# Altium integrated library NSC Audio.IntLib: 691 symbols (part 5 of 18)
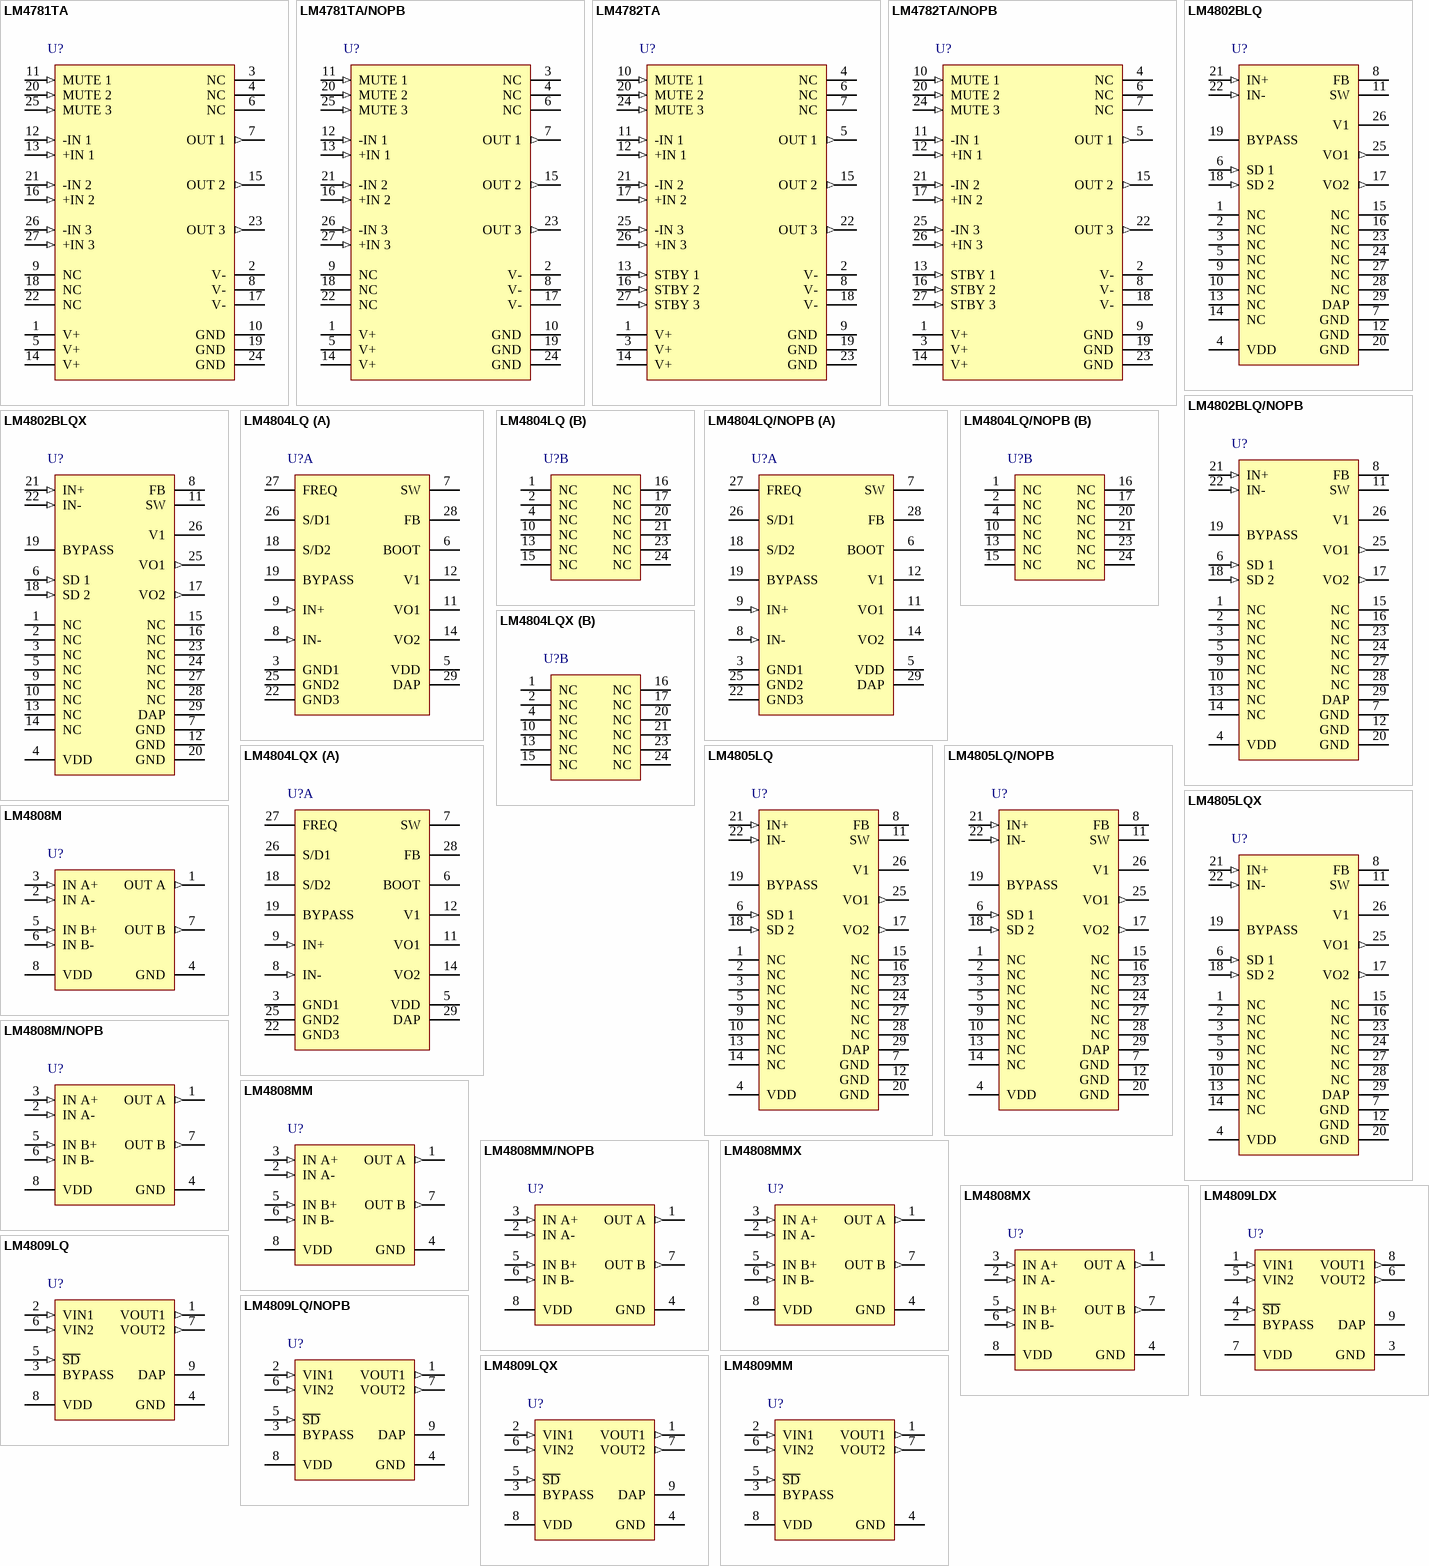
[diagram p31: symbols LM4781TA to LM4809MM]

## LM4808MMX
designator U?
Dual 105 mW Headphone Amplifier, 8-pin Mini SOIC; PartNumber: LM4808MMX; Manufacturer: National Semiconductor; PackageTopMarking: ZXTT*G08; PowerWise: N; CompType: Audio IC; Published: 1-Mar-2010; DatasheetVersion: Aug-2001; PackageVersion: revF, Apr-2008; PackageReference: MUA08A; Publisher: Altium Limited; PackageDescription: MINI SOIC, .118 x .118 x .034in, 8 Lead, .0256in Pitch; RoHS: N; PinCount: 8; Code_JEDEC: MO-187-AA; ComponentLink1Description: LM4808 Datasheet; ComponentLink1URL: http://www.national.com/ds/LM/LM4808.pdf; ComponentLink2Description: LM4808 Web Page; ComponentLink2URL: http://www.national.com/pf/LM/LM4808.html; ComponentLink3Description: MUA08A Package Page; ComponentLink3URL: http://www.national.com/packaging/folders/mua08a.html
footprint MUA08A_N (TSOP, 8-Leads, Body 3x3mm, Pitch 0.65mm, IPC Medium Density)
footprint MUA08A_L (TSOP, 8-Leads, Body 3x3mm, Pitch 0.65mm, IPC High Density)
footprint MUA08A_M (TSOP, 8-Leads, Body 3x3mm, Pitch 0.65mm, IPC Low Density)
pins: 1 OUT A (out), 2 IN A- (in), 3 IN A+ (in), 4 GND (power), 5 IN B+ (in), 6 IN B- (in), 7 OUT B (out), 8 VDD (power)

## LM4808MX
designator U?
Dual 105 mW Headphone Amplifier, 8-pin Narrow SOIC; PartNumber: LM4808MX; Manufacturer: National Semiconductor; PackageTopMarking: NSZXTT*LM48*08M; PowerWise: N; CompType: Audio IC; Published: 1-Mar-2010; DatasheetVersion: Aug-2001; PackageVersion: revM, May-2009; PackageReference: M08A; Publisher: Altium Limited; PackageDescription: SOIC Narrow, 4.9 x 3.9 x 1.45mm, 8 Lead, 1.27mm Pitch; RoHS: N; PinCount: 8; Code_JEDEC: MS-012-AA; Code_IPC: SOIC127P600-8; ComponentLink1Description: LM4808 Datasheet; ComponentLink1URL: http://www.national.com/ds/LM/LM4808.pdf; ComponentLink2Description: LM4808 Web Page; ComponentLink2URL: http://www.national.com/pf/LM/LM4808.html; ComponentLink3Description: M08A Package Page; ComponentLink3URL: http://www.national.com/packaging/folders/m08a.html
footprint M08A_N (SOIC, 8-Leads, Body 4.9x3.9mm, Pitch 1.27mm, IPC Medium Density)
footprint M08A_L (SOIC, 8-Leads, Body 4.9x3.9mm, Pitch 1.27mm, IPC High Density)
footprint M08A_M (SOIC, 8-Leads, Body 4.9x3.9mm, Pitch 1.27mm, IPC Low Density)
pins: 1 OUT A (out), 2 IN A- (in), 3 IN A+ (in), 4 GND (power), 5 IN B+ (in), 6 IN B- (in), 7 OUT B (out), 8 VDD (power)

## LM4809LDX
designator U?
Dual 105mW Headphone Amplifier with Active-Low Shutdown Mode, 8-pin LLP; PartNumber: LM4809LDX; Manufacturer: National Semiconductor; PackageTopMarking: XYTT*G09; PowerWise: N; CompType: Audio IC; Published: 1-Mar-2010; DatasheetVersion: Apr-2004; PackageVersion: revB, Jun-2003; PackageReference: LDA08B; Publisher: Altium Limited; PackageDescription: LLP, Plastic, Dual, 2.5 x 2.5 x 0.75mm Body, 8 Lead, 0.5mm Pitch; RoHS: N; PinCount: 8; Code_JEDEC: MO-229-WDDD-2; ComponentLink1Description: LM4809 Datasheet; ComponentLink1URL: http://www.national.com/ds/LM/LM4809.pdf; ComponentLink2Description: LM4809 Web Page; ComponentLink2URL: http://www.national.com/pf/LM/LM4809.html; ComponentLink3Description: LDA08B Package Page; ComponentLink3URL: http://www.national.com/packaging/folders/lda08b.html
footprint LDA08B (PSON, 8-Leads, Body 2.5x2.5mm, Pitch 0.5mm, NSC Recommended)
pins: 1 VIN1 (in), 2 BYPASS, 3 GND (power), 4 ~{SD} (in), 5 VIN2 (in), 6 VOUT2 (out), 7 VDD (power), 8 VOUT1 (out), 9 DAP (power)

## LM4809LQ
designator U?
Dual 105mW Headphone Amplifier with Active-Low Shutdown Mode, 9-pin LLP; PartNumber: LM4809LQ; Manufacturer: National Semiconductor; PackageTopMarking: XTT*GB3; PowerWise: N; CompType: Audio IC; Published: 4-Dec-2008; DatasheetVersion: Apr-2004; PackageVersion: revB, Nov-2002; PackageReference: LQB08A; Publisher: Altium Limited; PackageDescription: LLP, Plastic, Quad, 2 x 2 x 0.75mm Body, 8 Lead, 0.65mm Pitch; RoHS: N; PinCount: 8; ComponentLink1Description: LM4809 Datasheet; ComponentLink1URL: http://www.national.com/ds/LM/LM4809.pdf; ComponentLink2Description: LM4809 Web Page; ComponentLink2URL: http://www.national.com/pf/LM/LM4809.html; ComponentLink3Description: LQB08A Package Page; ComponentLink3URL: http://www.national.com/packaging/folders/lqb08a.html
footprint LQB08A (PQFN, 8-Leads, Body 2x2mm, Pitch 0.65mm, NSC Recommended)
pins: 1 VOUT1 (out), 2 VIN1 (in), 3 BYPASS, 4 GND (power), 5 ~{SD} (in), 6 VIN2 (in), 7 VOUT2 (out), 8 VDD (power), 9 DAP (power)

## LM4809LQ/NOPB
designator U?
Dual 105mW Headphone Amplifier with Active-Low Shutdown Mode, 8-pin LLP, Pb-Free; PartNumber: LM4809LQ/NOPB; Manufacturer: National Semiconductor; PackageTopMarking: XTT*GB3; PowerWise: N; CompType: Audio IC; Published: 1-Mar-2010; DatasheetVersion: Apr-2004; PackageVersion: revB, Nov-2002; PackageReference: LQB08A; Publisher: Altium Limited; PackageDescription: LLP, Plastic, Quad, 2 x 2 x 0.75mm Body, 8 Lead, 0.65mm Pitch; Supplier 1: Digi-Key; Supplier Part Number 1: LM4809LQTR-ND; Supplier 2: Digi-Key; Supplier Part Number 2: LM4809LQCT-ND; Supplier 3: Digi-Key; Supplier Part Number 3: LM4809LQDKR-ND; RoHS: Y; PinCount: 8; ComponentLink1Description: LM4809 Datasheet; ComponentLink1URL: http://www.national.com/ds/LM/LM4809.pdf; ComponentLink2Description: LM4809 Web Page; ComponentLink2URL: http://www.national.com/pf/LM/LM4809.html; ComponentLink3Description: LQB08A Package Page; ComponentLink3URL: http://www.national.com/packaging/folders/lqb08a.html
footprint LQB08A (PQFN, 8-Leads, Body 2x2mm, Pitch 0.65mm, NSC Recommended)
pins: 1 VOUT1 (out), 2 VIN1 (in), 3 BYPASS, 4 GND (power), 5 ~{SD} (in), 6 VIN2 (in), 7 VOUT2 (out), 8 VDD (power), 9 DAP (power)

## LM4809LQX
designator U?
Dual 105mW Headphone Amplifier with Active-Low Shutdown Mode, 8-pin LLP; PartNumber: LM4809LQX; Manufacturer: National Semiconductor; PackageTopMarking: XTT*GB3; PowerWise: N; CompType: Audio IC; Published: 1-Mar-2010; DatasheetVersion: Apr-2004; PackageVersion: revB, Nov-2002; PackageReference: LQB08A; Publisher: Altium Limited; PackageDescription: LLP, Plastic, Quad, 2 x 2 x 0.75mm Body, 8 Lead, 0.65mm Pitch; RoHS: N; PinCount: 8; ComponentLink1Description: LM4809 Datasheet; ComponentLink1URL: http://www.national.com/ds/LM/LM4809.pdf; ComponentLink2Description: LM4809 Web Page; ComponentLink2URL: http://www.national.com/pf/LM/LM4809.html; ComponentLink3Description: LQB08A Package Page; ComponentLink3URL: http://www.national.com/packaging/folders/lqb08a.html
footprint LQB08A (PQFN, 8-Leads, Body 2x2mm, Pitch 0.65mm, NSC Recommended)
pins: 1 VOUT1 (out), 2 VIN1 (in), 3 BYPASS, 4 GND (power), 5 ~{SD} (in), 6 VIN2 (in), 7 VOUT2 (out), 8 VDD (power), 9 DAP (power)

## LM4809MM
designator U?
Dual 105mW Headphone Amplifier with Active-Low Shutdown Mode, 8-pin Mini SOIC; PartNumber: LM4809MM; Manufacturer: National Semiconductor; PackageTopMarking: ZXTT*G09; PowerWise: N; CompType: Audio IC; Published: 4-Dec-2008; DatasheetVersion: Apr-2004; PackageVersion: revF, Apr-2008; PackageReference: MUA08A; Publisher: Altium Limited; PackageDescription: MINI SOIC, .118 x .118 x .034in, 8 Lead, .0256in Pitch; Supplier 1: Farnell; Supplier Part Number 1: 1798326; RoHS: N; PinCount: 8; Code_JEDEC: MO-187-AA; ComponentLink1Description: LM4809 Datasheet; ComponentLink1URL: http://www.national.com/ds/LM/LM4809.pdf; ComponentLink2Description: LM4809 Web Page; ComponentLink2URL: http://www.national.com/pf/LM/LM4809.html; ComponentLink3Description: MUA08A Package Page; ComponentLink3URL: http://www.national.com/packaging/folders/mua08a.html
footprint MUA08A_N (TSOP, 8-Leads, Body 3x3mm, Pitch 0.65mm, IPC Medium Density)
footprint MUA08A_L (TSOP, 8-Leads, Body 3x3mm, Pitch 0.65mm, IPC High Density)
footprint MUA08A_M (TSOP, 8-Leads, Body 3x3mm, Pitch 0.65mm, IPC Low Density)
pins: 1 VOUT1 (out), 2 VIN1 (in), 3 BYPASS, 4 GND (power), 5 ~{SD} (in), 6 VIN2 (in), 7 VOUT2 (out), 8 VDD (power)

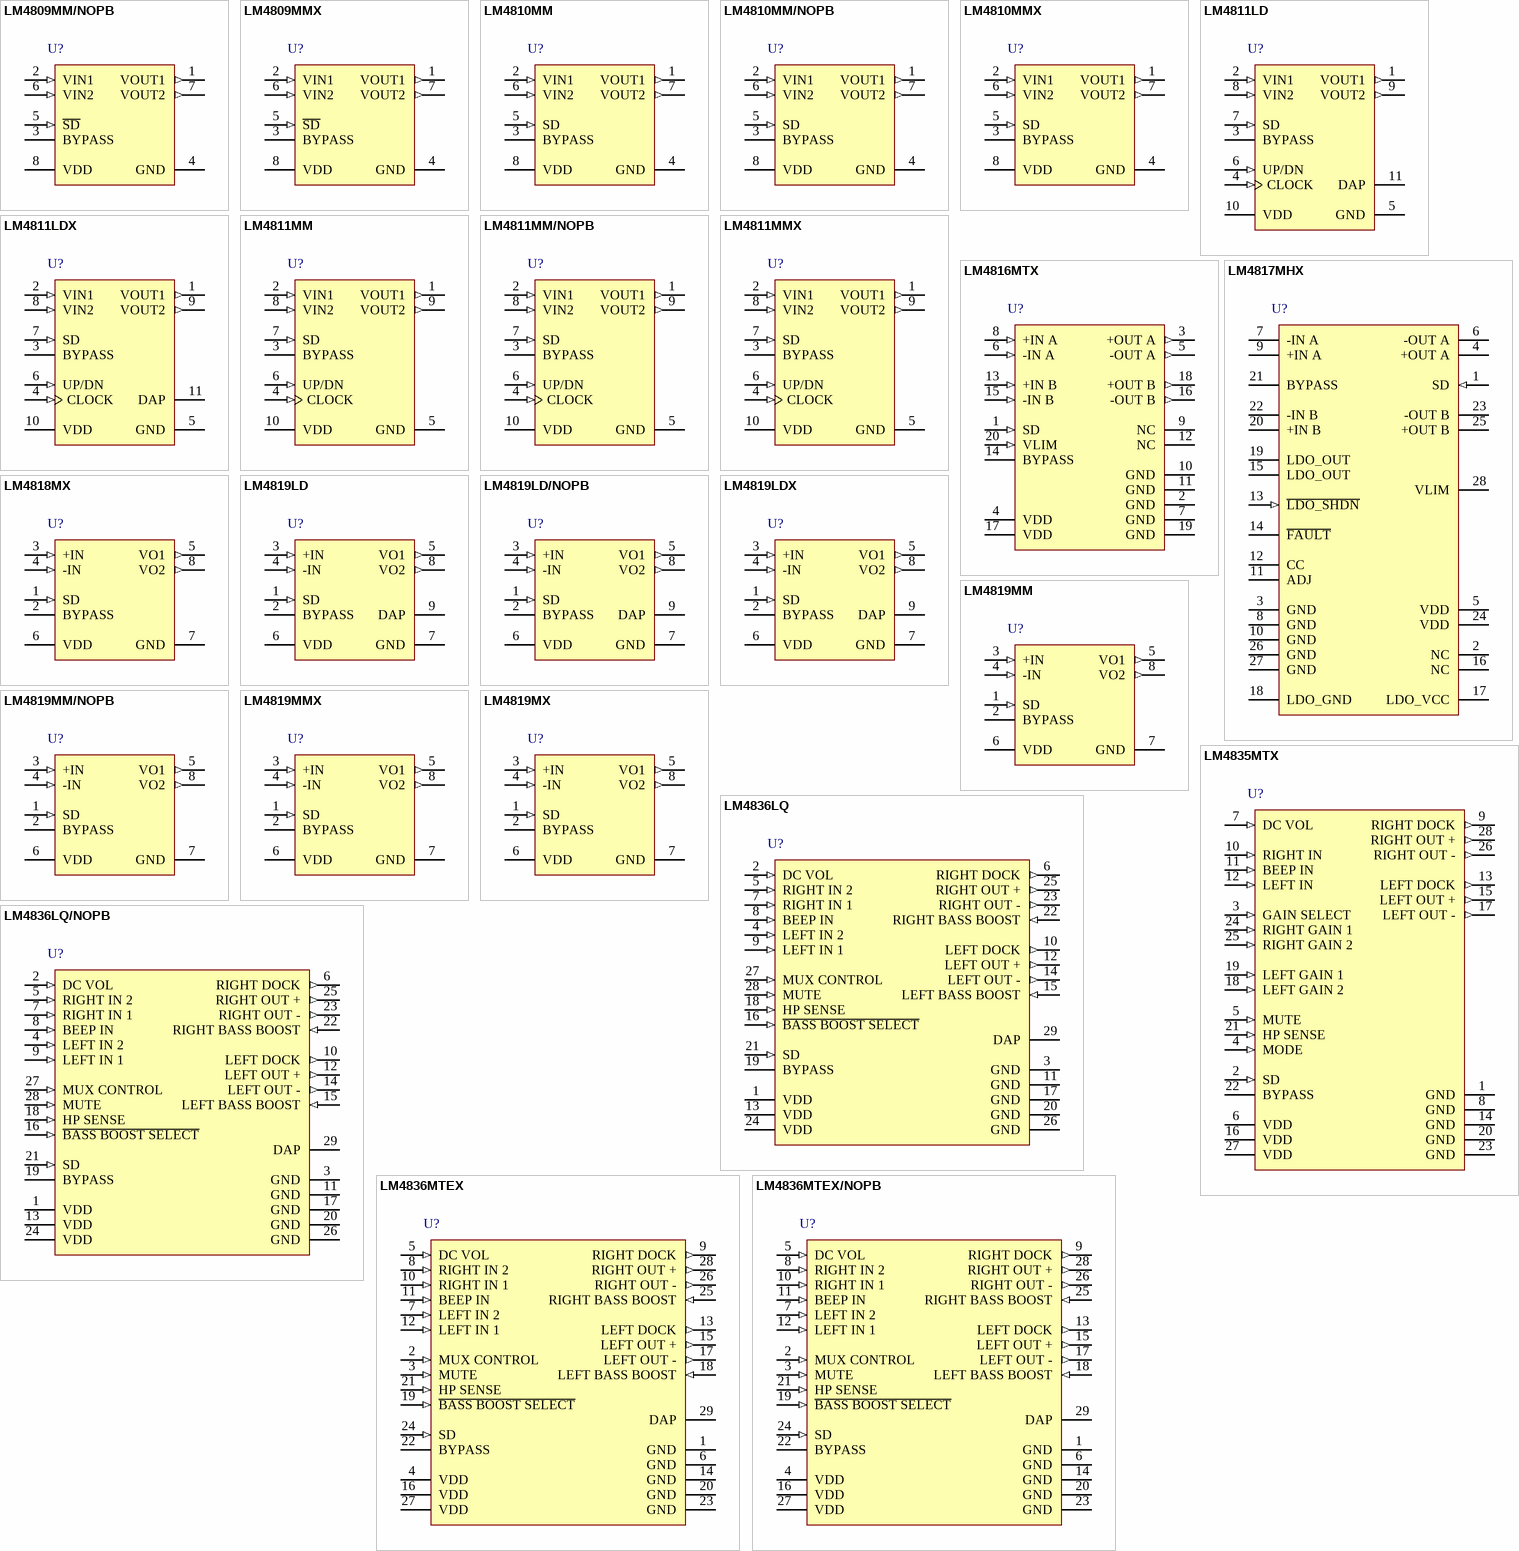
[diagram p6: symbols LM4809MM/NOPB to LM4836MTEX/NOPB]

## LM4809MM/NOPB
designator U?
Dual 105mW Headphone Amplifier with Active-Low Shutdown Mode, 8-pin Mini SOIC, Pb-Free; PartNumber: LM4809MM/NOPB; Manufacturer: National Semiconductor; PackageTopMarking: ZXTT*G09; PowerWise: N; CompType: Audio IC; Published: 1-Mar-2010; DatasheetVersion: Apr-2004; PackageVersion: revF, Apr-2008; PackageReference: MUA08A; Publisher: Altium Limited; PackageDescription: MINI SOIC, .118 x .118 x .034in, 8 Lead, .0256in Pitch; Supplier 1: Digi-Key; Supplier Part Number 1: LM4809MMTR-ND; Supplier 2: Digi-Key; Supplier Part Number 2: LM4809MMCT-ND; Supplier 3: Digi-Key; Supplier Part Number 3: LM4809MMDKR-ND; RoHS: Y; PinCount: 8; Code_JEDEC: MO-187-AA; ComponentLink1Description: LM4809 Datasheet; ComponentLink1URL: http://www.national.com/ds/LM/LM4809.pdf; ComponentLink2Description: LM4809 Web Page; ComponentLink2URL: http://www.national.com/pf/LM/LM4809.html; ComponentLink3Description: MUA08A Package Page; ComponentLink3URL: http://www.national.com/packaging/folders/mua08a.html
footprint MUA08A_N (TSOP, 8-Leads, Body 3x3mm, Pitch 0.65mm, IPC Medium Density)
footprint MUA08A_L (TSOP, 8-Leads, Body 3x3mm, Pitch 0.65mm, IPC High Density)
footprint MUA08A_M (TSOP, 8-Leads, Body 3x3mm, Pitch 0.65mm, IPC Low Density)
pins: 1 VOUT1 (out), 2 VIN1 (in), 3 BYPASS, 4 GND (power), 5 ~{SD} (in), 6 VIN2 (in), 7 VOUT2 (out), 8 VDD (power)

## LM4809MMX
designator U?
Dual 105mW Headphone Amplifier with Active-Low Shutdown Mode, 8-pin Mini SOIC; PartNumber: LM4809MMX; Manufacturer: National Semiconductor; PackageTopMarking: ZXTT*G09; PowerWise: N; CompType: Audio IC; Published: 1-Mar-2010; DatasheetVersion: Apr-2004; PackageVersion: revF, Apr-2008; PackageReference: MUA08A; Publisher: Altium Limited; PackageDescription: MINI SOIC, .118 x .118 x .034in, 8 Lead, .0256in Pitch; RoHS: N; PinCount: 8; Code_JEDEC: MO-187-AA; ComponentLink1Description: LM4809 Datasheet; ComponentLink1URL: http://www.national.com/ds/LM/LM4809.pdf; ComponentLink2Description: LM4809 Web Page; ComponentLink2URL: http://www.national.com/pf/LM/LM4809.html; ComponentLink3Description: MUA08A Package Page; ComponentLink3URL: http://www.national.com/packaging/folders/mua08a.html
footprint MUA08A_N (TSOP, 8-Leads, Body 3x3mm, Pitch 0.65mm, IPC Medium Density)
footprint MUA08A_L (TSOP, 8-Leads, Body 3x3mm, Pitch 0.65mm, IPC High Density)
footprint MUA08A_M (TSOP, 8-Leads, Body 3x3mm, Pitch 0.65mm, IPC Low Density)
pins: 1 VOUT1 (out), 2 VIN1 (in), 3 BYPASS, 4 GND (power), 5 ~{SD} (in), 6 VIN2 (in), 7 VOUT2 (out), 8 VDD (power)

## LM4810MM
designator U?
Dual 105mW Headphone Amplifier with Active-High Shutdown Mode, 8-pin Mini SOIC; PartNumber: LM4810MM; Manufacturer: National Semiconductor; PackageTopMarking: ZXTT*G10; PowerWise: N; CompType: Audio IC; Published: 4-Dec-2008; DatasheetVersion: Nov-2002; PackageVersion: revF, Apr-2008; PackageReference: MUA08A; Publisher: Altium Limited; PackageDescription: MINI SOIC, .118 x .118 x .034in, 8 Lead, .0256in Pitch; RoHS: N; PinCount: 8; Code_JEDEC: MO-187-AA; ComponentLink1Description: LM4810 Datasheet; ComponentLink1URL: http://www.national.com/ds/LM/LM4810.pdf; ComponentLink2Description: LM4810 Web Page; ComponentLink2URL: http://www.national.com/pf/LM/LM4810.html; ComponentLink3Description: MUA08A Package Page; ComponentLink3URL: http://www.national.com/packaging/folders/mua08a.html
footprint MUA08A_N (TSOP, 8-Leads, Body 3x3mm, Pitch 0.65mm, IPC Medium Density)
footprint MUA08A_L (TSOP, 8-Leads, Body 3x3mm, Pitch 0.65mm, IPC High Density)
footprint MUA08A_M (TSOP, 8-Leads, Body 3x3mm, Pitch 0.65mm, IPC Low Density)
pins: 1 VOUT1 (out), 2 VIN1 (in), 3 BYPASS, 4 GND (power), 5 SD (in), 6 VIN2 (in), 7 VOUT2 (out), 8 VDD (power)

## LM4810MM/NOPB
designator U?
Dual 105mW Headphone Amplifier with Active-High Shutdown Mode, 8-pin Mini SOIC, Pb-Free; PartNumber: LM4810MM/NOPB; Manufacturer: National Semiconductor; PackageTopMarking: ZXTT*G10; PowerWise: N; CompType: Audio IC; Published: 1-Mar-2010; DatasheetVersion: Nov-2002; PackageVersion: revF, Apr-2008; PackageReference: MUA08A; Publisher: Altium Limited; PackageDescription: MINI SOIC, .118 x .118 x .034in, 8 Lead, .0256in Pitch; Supplier 1: Digi-Key; Supplier Part Number 1: LM4810MMTR-ND; Supplier 2: Digi-Key; Supplier Part Number 2: LM4810MMCT-ND; Supplier 3: Digi-Key; Supplier Part Number 3: LM4810MMDKR-ND; RoHS: Y; PinCount: 8; Code_JEDEC: MO-187-AA; ComponentLink1Description: LM4810 Datasheet; ComponentLink1URL: http://www.national.com/ds/LM/LM4810.pdf; ComponentLink2Description: LM4810 Web Page; ComponentLink2URL: http://www.national.com/pf/LM/LM4810.html; ComponentLink3Description: MUA08A Package Page; ComponentLink3URL: http://www.national.com/packaging/folders/mua08a.html
footprint MUA08A_N (TSOP, 8-Leads, Body 3x3mm, Pitch 0.65mm, IPC Medium Density)
footprint MUA08A_L (TSOP, 8-Leads, Body 3x3mm, Pitch 0.65mm, IPC High Density)
footprint MUA08A_M (TSOP, 8-Leads, Body 3x3mm, Pitch 0.65mm, IPC Low Density)
pins: 1 VOUT1 (out), 2 VIN1 (in), 3 BYPASS, 4 GND (power), 5 SD (in), 6 VIN2 (in), 7 VOUT2 (out), 8 VDD (power)

## LM4810MMX
designator U?
Dual 105mW Headphone Amplifier with Active-High Shutdown Mode, 8-pin Mini SOIC; PartNumber: LM4810MMX; Manufacturer: National Semiconductor; PackageTopMarking: ZXTT*G10; PowerWise: N; CompType: Audio IC; Published: 1-Mar-2010; DatasheetVersion: Nov-2002; PackageVersion: revF, Apr-2008; PackageReference: MUA08A; Publisher: Altium Limited; PackageDescription: MINI SOIC, .118 x .118 x .034in, 8 Lead, .0256in Pitch; RoHS: N; PinCount: 8; Code_JEDEC: MO-187-AA; ComponentLink1Description: LM4810 Datasheet; ComponentLink1URL: http://www.national.com/ds/LM/LM4810.pdf; ComponentLink2Description: LM4810 Web Page; ComponentLink2URL: http://www.national.com/pf/LM/LM4810.html; ComponentLink3Description: MUA08A Package Page; ComponentLink3URL: http://www.national.com/packaging/folders/mua08a.html
footprint MUA08A_N (TSOP, 8-Leads, Body 3x3mm, Pitch 0.65mm, IPC Medium Density)
footprint MUA08A_L (TSOP, 8-Leads, Body 3x3mm, Pitch 0.65mm, IPC High Density)
footprint MUA08A_M (TSOP, 8-Leads, Body 3x3mm, Pitch 0.65mm, IPC Low Density)
pins: 1 VOUT1 (out), 2 VIN1 (in), 3 BYPASS, 4 GND (power), 5 SD (in), 6 VIN2 (in), 7 VOUT2 (out), 8 VDD (power)

## LM4811LD
designator U?
Dual 105mW Headphone Amplifier with Digital Volume Control and Shutdown Mode, 11-pin LLP; PartNumber: LM4811LD; Manufacturer: National Semiconductor; PackageTopMarking: ZXYTT*G11; PowerWise: N; CompType: Audio IC; Published: 4-Dec-2008; DatasheetVersion: Apr-2006; PackageVersion: revB, Jan-2003; PackageReference: LDA10A; Publisher: Altium Limited; PackageDescription: LLP, Plastic, Dual, 3 x 3 x 0.75mm Body, 10 Lead, 0.5mm Pitch; RoHS: N; PinCount: 10; ComponentLink1Description: LM4811 Datasheet; ComponentLink1URL: http://www.national.com/ds/LM/LM4811.pdf; ComponentLink2Description: LM4811 Web Page; ComponentLink2URL: http://www.national.com/pf/LM/LM4811.html; ComponentLink3Description: LDA10A Package Page; ComponentLink3URL: http://www.national.com/packaging/folders/lda10a.html
footprint LDA10A (PSON, 10-Leads, Body 3x3mm, Pitch 0.5mm, NSC Recommended)
pins: 1 VOUT1 (out), 2 VIN1 (in), 3 BYPASS, 4 CLOCK (in), 5 GND (power), 6 UP/DN (in), 7 SD (in), 8 VIN2 (in), 9 VOUT2 (out), 10 VDD (power), 11 DAP (power)

## LM4811LDX
designator U?
Dual 105mW Headphone Amplifier with Digital Volume Control and Shutdown Mode, 10-pin LLP; PartNumber: LM4811LDX; Manufacturer: National Semiconductor; PackageTopMarking: ZXYTT*G11; PowerWise: N; CompType: Audio IC; Published: 1-Mar-2010; DatasheetVersion: Apr-2006; PackageVersion: revB, Jan-2003; PackageReference: LDA10A; Publisher: Altium Limited; PackageDescription: LLP, Plastic, Dual, 3 x 3 x 0.75mm Body, 10 Lead, 0.5mm Pitch; RoHS: N; PinCount: 10; ComponentLink1Description: LM4811 Datasheet; ComponentLink1URL: http://www.national.com/ds/LM/LM4811.pdf; ComponentLink2Description: LM4811 Web Page; ComponentLink2URL: http://www.national.com/pf/LM/LM4811.html; ComponentLink3Description: LDA10A Package Page; ComponentLink3URL: http://www.national.com/packaging/folders/lda10a.html
footprint LDA10A (PSON, 10-Leads, Body 3x3mm, Pitch 0.5mm, NSC Recommended)
pins: 1 VOUT1 (out), 2 VIN1 (in), 3 BYPASS, 4 CLOCK (in), 5 GND (power), 6 UP/DN (in), 7 SD (in), 8 VIN2 (in), 9 VOUT2 (out), 10 VDD (power), 11 DAP (power)

## LM4811MM
designator U?
Dual 105mW Headphone Amplifier with Digital Volume Control and Shutdown Mode, 10-pin MSOP; PartNumber: LM4811MM; Manufacturer: National Semiconductor; PackageTopMarking: ZXTT*G11; PowerWise: N; CompType: Audio IC; Published: 4-Dec-2008; DatasheetVersion: Apr-2006; PackageVersion: revB, Jul-2003; PackageReference: MUB10A; Publisher: Altium Limited; PackageDescription: Mini-SO, Molded, .118 x .118 x .034in Body, 10 Lead, .0197in Pitch; Supplier 1: Farnell; Supplier Part Number 1: 9779221; RoHS: N; PinCount: 10; Code_JEDEC: MO-187-BA; ComponentLink1Description: LM4811 Datasheet; ComponentLink1URL: http://www.national.com/ds/LM/LM4811.pdf; ComponentLink2Description: LM4811 Web Page; ComponentLink2URL: http://www.national.com/pf/LM/LM4811.html; ComponentLink3Description: MUB10A Package Page; ComponentLink3URL: http://www.national.com/packaging/folders/mub10a.html
footprint MUB10A_N (TSSOP, 10-Leads, Body 3x3mm, Pitch 0.5mm, IPC Medium Density)
footprint MUB10A_L (TSSOP, 10-Leads, Body 3x3mm, Pitch 0.5mm, IPC High Density)
footprint MUB10A_M (TSSOP, 10-Leads, Body 3x3mm, Pitch 0.5mm, IPC Low Density)
pins: 1 VOUT1 (out), 2 VIN1 (in), 3 BYPASS, 4 CLOCK (in), 5 GND (power), 6 UP/DN (in), 7 SD (in), 8 VIN2 (in), 9 VOUT2 (out), 10 VDD (power)

## LM4811MM/NOPB
designator U?
Dual 105mW Headphone Amplifier with Digital Volume Control and Shutdown Mode, 10-pin Mini SOIC, Pb-Free; PartNumber: LM4811MM/NOPB; Manufacturer: National Semiconductor; PackageTopMarking: ZXTT*G11; PowerWise: N; CompType: Audio IC; Published: 1-Mar-2010; DatasheetVersion: Apr-2006; PackageVersion: revB, Jul-2003; PackageReference: MUB10A; Publisher: Altium Limited; PackageDescription: Mini-SO, Molded, .118 x .118 x .034in Body, 10 Lead, .0197in Pitch; Supplier 1: Digi-Key; Supplier Part Number 1: LM4811MMTR-ND; Supplier 2: Digi-Key; Supplier Part Number 2: LM4811MMCT-ND; Supplier 3: Digi-Key; Supplier Part Number 3: LM4811MMDKR-ND; Supplier 4: Farnell; Supplier Part Number 4: 1277981; RoHS: Y; PinCount: 10; Code_JEDEC: MO-187-BA; ComponentLink1Description: LM4811 Datasheet; ComponentLink1URL: http://www.national.com/ds/LM/LM4811.pdf; ComponentLink2Description: LM4811 Web Page; ComponentLink2URL: http://www.national.com/pf/LM/LM4811.html; ComponentLink3Description: MUB10A Package Page; ComponentLink3URL: http://www.national.com/packaging/folders/mub10a.html
footprint MUB10A_N (TSSOP, 10-Leads, Body 3x3mm, Pitch 0.5mm, IPC Medium Density)
footprint MUB10A_L (TSSOP, 10-Leads, Body 3x3mm, Pitch 0.5mm, IPC High Density)
footprint MUB10A_M (TSSOP, 10-Leads, Body 3x3mm, Pitch 0.5mm, IPC Low Density)
pins: 1 VOUT1 (out), 2 VIN1 (in), 3 BYPASS, 4 CLOCK (in), 5 GND (power), 6 UP/DN (in), 7 SD (in), 8 VIN2 (in), 9 VOUT2 (out), 10 VDD (power)

## LM4811MMX
designator U?
Dual 105mW Headphone Amplifier with Digital Volume Control and Shutdown Mode, 10-pin Mini SOIC; PartNumber: LM4811MMX; Manufacturer: National Semiconductor; PackageTopMarking: ZXTT*G11; PowerWise: N; CompType: Audio IC; Published: 1-Mar-2010; DatasheetVersion: Apr-2006; PackageVersion: revB, Jul-2003; PackageReference: MUB10A; Publisher: Altium Limited; PackageDescription: Mini-SO, Molded, .118 x .118 x .034in Body, 10 Lead, .0197in Pitch; RoHS: N; PinCount: 10; Code_JEDEC: MO-187-BA; ComponentLink1Description: LM4811 Datasheet; ComponentLink1URL: http://www.national.com/ds/LM/LM4811.pdf; ComponentLink2Description: LM4811 Web Page; ComponentLink2URL: http://www.national.com/pf/LM/LM4811.html; ComponentLink3Description: MUB10A Package Page; ComponentLink3URL: http://www.national.com/packaging/folders/mub10a.html
footprint MUB10A_N (TSSOP, 10-Leads, Body 3x3mm, Pitch 0.5mm, IPC Medium Density)
footprint MUB10A_L (TSSOP, 10-Leads, Body 3x3mm, Pitch 0.5mm, IPC High Density)
footprint MUB10A_M (TSSOP, 10-Leads, Body 3x3mm, Pitch 0.5mm, IPC Low Density)
pins: 1 VOUT1 (out), 2 VIN1 (in), 3 BYPASS, 4 CLOCK (in), 5 GND (power), 6 UP/DN (in), 7 SD (in), 8 VIN2 (in), 9 VOUT2 (out), 10 VDD (power)

## LM4816MTX
designator U?
1W Stereo Audio Amplifier + Adjustable Output Limiter, 20-pin TSSOP; PartNumber: LM4816MTX; Manufacturer: National Semiconductor; PackageTopMarking: NSUZXYTT*LM4816*MT; PowerWise: N; CompType: Audio IC; Published: 1-Mar-2010; DatasheetVersion: Oct-2003; PackageVersion: revE, Mar-2003; PackageReference: MTC20; Publisher: Altium Limited; PackageDescription: Molded TSSOP, Jedec, 6.5 x 4.4 x 0.9mm Body, 20 Lead, 0.65mm Pitch; RoHS: N; PinCount: 20; Code_JEDEC: MO-153-AC; ComponentLink1Description: LM4816 Datasheet; ComponentLink1URL: http://www.national.com/ds/LM/LM4816.pdf; ComponentLink2Description: LM4816 Web Page; ComponentLink2URL: http://www.national.com/pf/LM/LM4816.html; ComponentLink3Description: MTC20 Package Page; ComponentLink3URL: http://www.national.com/packaging/folders/mtc20.html
footprint MTC20_N (TSOP, 20-Leads, Body 6.5x4.4mm, Pitch 0.65mm, IPC Medium Density)
footprint MTC20_L (TSOP, 20-Leads, Body 6.5x4.4mm, Pitch 0.65mm, IPC High Density)
footprint MTC20_M (TSOP, 20-Leads, Body 6.5x4.4mm, Pitch 0.65mm, IPC Low Density)
pins: 1 SD (in), 2 GND (power), 3 +OUT A (out), 4 VDD (power), 5 -OUT A (out), 6 -IN A (in), 7 GND (power), 8 +IN A (in), 9 NC, 10 GND (power), 11 GND (power), 12 NC, 13 +IN B (in), 14 BYPASS, 15 -IN B (in), 16 -OUT B (out), 17 VDD (power), 18 +OUT B (out), 19 GND (power), 20 VLIM (in)

## LM4817MHX
designator U?
1W Stereo Audio Amplifier Plus Adjustable Output Limiter Plus Adjustable LDO, 28-pin TSSOP-EP; PartNumber: LM4817MHX; Manufacturer: National Semiconductor; PackageTopMarking: NSUZXYTT*LM4817MH; PowerWise: N; CompType: Audio IC; Published: 1-Mar-2010; DatasheetVersion: Feb-2006; PackageVersion: revD, Oct-2003; PackageReference: MXA28A; Publisher: Altium Limited; PackageDescription: Molded TSSOP, Jedec, 9.7 x 4.4 x 0.9mm Body, 28 Lead, 0.65mm Pitch, Exposed Pad; RoHS: N; PinCount: 28; Code_JEDEC: MO-153-AET; ComponentLink1Description: LM4817 Datasheet; ComponentLink1URL: http://www.national.com/ds/LM/LM4817.pdf; ComponentLink2Description: LM4817 Web Page; ComponentLink2URL: http://www.national.com/pf/LM/LM4817.html; ComponentLink3Description: MXA28A Package Page; ComponentLink3URL: http://www.national.com/packaging/folders/mxa28a.html
footprint MXA28A_N (TSOP, 28-Leads, Body 9.7x4.4mm, Pitch 0.65mm, Exposed Pad, IPC Medium Density)
footprint MXA28A_L (TSOP, 28-Leads, Body 9.7x4.4mm, Pitch 0.65mm, Exposed Pad, IPC High Density)
footprint MXA28A_M (TSOP, 28-Leads, Body 9.7x4.4mm, Pitch 0.65mm, Exposed Pad, IPC Low Density)
pins: 1 SD (in), 2 NC, 3 GND (power), 4 +OUT A, 5 VDD (power), 6 -OUT A, 7 -IN A, 8 GND (power), 9 +IN A, 10 GND (power), 11 ADJ, 12 CC, 13 ~{LDO_SHDN} (in), 14 ~{FAULT}, 15 LDO_OUT (power), 16 NC, 17 LDO_VCC (power), 18 LDO_GND (power), 19 LDO_OUT (power), 20 +IN B, 21 BYPASS, 22 -IN B, 23 -OUT B, 24 VDD (power), 25 +OUT B, 26 GND (power), 27 GND (power), 28 VLIM (power)

## LM4818MX
designator U?
350mW Audio Power Amplifier with Shutdown Mode, 8-pin Narrow SOIC; PartNumber: LM4818MX; Manufacturer: National Semiconductor; PackageTopMarking: NSZXTT*LM48*18M; PowerWise: N; CompType: Audio IC; Published: 1-Mar-2010; DatasheetVersion: Apr-2002; PackageVersion: revM, May-2009; PackageReference: M08A; Publisher: Altium Limited; PackageDescription: SOIC Narrow, 4.9 x 3.9 x 1.45mm, 8 Lead, 1.27mm Pitch; RoHS: N; PinCount: 8; Code_JEDEC: MS-012-AA; Code_IPC: SOIC127P600-8; ComponentLink1Description: LM4818 Datasheet; ComponentLink1URL: http://www.national.com/ds/LM/LM4818.pdf; ComponentLink2Description: LM4818 Web Page; ComponentLink2URL: http://www.national.com/pf/LM/LM4818.html; ComponentLink3Description: M08A Package Page; ComponentLink3URL: http://www.national.com/packaging/folders/m08a.html
footprint M08A_N (SOIC, 8-Leads, Body 4.9x3.9mm, Pitch 1.27mm, IPC Medium Density)
footprint M08A_L (SOIC, 8-Leads, Body 4.9x3.9mm, Pitch 1.27mm, IPC High Density)
footprint M08A_M (SOIC, 8-Leads, Body 4.9x3.9mm, Pitch 1.27mm, IPC Low Density)
pins: 1 SD (in), 2 BYPASS, 3 +IN (in), 4 -IN (in), 5 VO1 (out), 6 VDD (power), 7 GND (power), 8 VO2 (out)

## LM4819LD
designator U?
350mW Audio Power Amplifier with Shutdown Mode, 9-pin LLP; PartNumber: LM4819LD; Manufacturer: National Semiconductor; PackageTopMarking: XYTT*G19; PowerWise: N; CompType: Audio IC; Published: 4-Dec-2008; DatasheetVersion: Apr-2002; PackageVersion: revB, Jun-2003; PackageReference: LDA08B; Publisher: Altium Limited; PackageDescription: LLP, Plastic, Dual, 2.5 x 2.5 x 0.75mm Body, 8 Lead, 0.5mm Pitch; RoHS: N; PinCount: 8; Code_JEDEC: MO-229-WDDD-2; ComponentLink1Description: LM4819 Datasheet; ComponentLink1URL: http://www.national.com/ds/LM/LM4819.pdf; ComponentLink2Description: LM4819 Web Page; ComponentLink2URL: http://www.national.com/pf/LM/LM4819.html; ComponentLink3Description: LDA08B Package Page; ComponentLink3URL: http://www.national.com/packaging/folders/lda08b.html
footprint LDA08B (PSON, 8-Leads, Body 2.5x2.5mm, Pitch 0.5mm, NSC Recommended)
pins: 1 SD (in), 2 BYPASS, 3 +IN (in), 4 -IN (in), 5 VO1 (out), 6 VDD (power), 7 GND (power), 8 VO2 (out), 9 DAP (power)

## LM4819LD/NOPB
designator U?
350mW Audio Power Amplifier with Shutdown Mode, 8-pin LLP, Pb-Free; PartNumber: LM4819LD/NOPB; Manufacturer: National Semiconductor; PackageTopMarking: XYTT*G19; PowerWise: N; CompType: Audio IC; Published: 1-Mar-2010; DatasheetVersion: Apr-2002; PackageVersion: revB, Jun-2003; PackageReference: LDA08B; Publisher: Altium Limited; PackageDescription: LLP, Plastic, Dual, 2.5 x 2.5 x 0.75mm Body, 8 Lead, 0.5mm Pitch; Supplier 1: Digi-Key; Supplier Part Number 1: LM4819LD-ND; RoHS: Y; PinCount: 8; Code_JEDEC: MO-229-WDDD-2; ComponentLink1Description: LM4819 Datasheet; ComponentLink1URL: http://www.national.com/ds/LM/LM4819.pdf; ComponentLink2Description: LM4819 Web Page; ComponentLink2URL: http://www.national.com/pf/LM/LM4819.html; ComponentLink3Description: LDA08B Package Page; ComponentLink3URL: http://www.national.com/packaging/folders/lda08b.html
footprint LDA08B (PSON, 8-Leads, Body 2.5x2.5mm, Pitch 0.5mm, NSC Recommended)
pins: 1 SD (in), 2 BYPASS, 3 +IN (in), 4 -IN (in), 5 VO1 (out), 6 VDD (power), 7 GND (power), 8 VO2 (out), 9 DAP (power)

## LM4819LDX
designator U?
350mW Audio Power Amplifier with Shutdown Mode, 8-pin LLP; PartNumber: LM4819LDX; Manufacturer: National Semiconductor; PackageTopMarking: XYTT*G19; PowerWise: N; CompType: Audio IC; Published: 1-Mar-2010; DatasheetVersion: Apr-2002; PackageVersion: revB, Jun-2003; PackageReference: LDA08B; Publisher: Altium Limited; PackageDescription: LLP, Plastic, Dual, 2.5 x 2.5 x 0.75mm Body, 8 Lead, 0.5mm Pitch; RoHS: N; PinCount: 8; Code_JEDEC: MO-229-WDDD-2; ComponentLink1Description: LM4819 Datasheet; ComponentLink1URL: http://www.national.com/ds/LM/LM4819.pdf; ComponentLink2Description: LM4819 Web Page; ComponentLink2URL: http://www.national.com/pf/LM/LM4819.html; ComponentLink3Description: LDA08B Package Page; ComponentLink3URL: http://www.national.com/packaging/folders/lda08b.html
footprint LDA08B (PSON, 8-Leads, Body 2.5x2.5mm, Pitch 0.5mm, NSC Recommended)
pins: 1 SD (in), 2 BYPASS, 3 +IN (in), 4 -IN (in), 5 VO1 (out), 6 VDD (power), 7 GND (power), 8 VO2 (out), 9 DAP (power)

## LM4819MM
designator U?
350mW Audio Power Amplifier with Shutdown Mode, 8-pin Mini SOIC; PartNumber: LM4819MM; Manufacturer: National Semiconductor; PackageTopMarking: ZXTT*G19; PowerWise: N; CompType: Audio IC; Published: 4-Dec-2008; DatasheetVersion: Apr-2002; PackageVersion: revF, Apr-2008; PackageReference: MUA08A; Publisher: Altium Limited; PackageDescription: MINI SOIC, .118 x .118 x .034in, 8 Lead, .0256in Pitch; RoHS: N; PinCount: 8; Code_JEDEC: MO-187-AA; ComponentLink1Description: LM4819 Datasheet; ComponentLink1URL: http://www.national.com/ds/LM/LM4819.pdf; ComponentLink2Description: LM4819 Web Page; ComponentLink2URL: http://www.national.com/pf/LM/LM4819.html; ComponentLink3Description: MUA08A Package Page; ComponentLink3URL: http://www.national.com/packaging/folders/mua08a.html
footprint MUA08A_N (TSOP, 8-Leads, Body 3x3mm, Pitch 0.65mm, IPC Medium Density)
footprint MUA08A_L (TSOP, 8-Leads, Body 3x3mm, Pitch 0.65mm, IPC High Density)
footprint MUA08A_M (TSOP, 8-Leads, Body 3x3mm, Pitch 0.65mm, IPC Low Density)
pins: 1 SD (in), 2 BYPASS, 3 +IN (in), 4 -IN (in), 5 VO1 (out), 6 VDD (power), 7 GND (power), 8 VO2 (out)

## LM4819MM/NOPB
designator U?
350mW Audio Power Amplifier with Shutdown Mode, 8-pin Mini SOIC, Pb-Free; PartNumber: LM4819MM/NOPB; Manufacturer: National Semiconductor; PackageTopMarking: ZXTT*G19; PowerWise: N; CompType: Audio IC; Published: 1-Mar-2010; DatasheetVersion: Apr-2002; PackageVersion: revF, Apr-2008; PackageReference: MUA08A; Publisher: Altium Limited; PackageDescription: MINI SOIC, .118 x .118 x .034in, 8 Lead, .0256in Pitch; Supplier 1: Digi-Key; Supplier Part Number 1: LM4819MM-ND; RoHS: Y; PinCount: 8; Code_JEDEC: MO-187-AA; ComponentLink1Description: LM4819 Datasheet; ComponentLink1URL: http://www.national.com/ds/LM/LM4819.pdf; ComponentLink2Description: LM4819 Web Page; ComponentLink2URL: http://www.national.com/pf/LM/LM4819.html; ComponentLink3Description: MUA08A Package Page; ComponentLink3URL: http://www.national.com/packaging/folders/mua08a.html
footprint MUA08A_N (TSOP, 8-Leads, Body 3x3mm, Pitch 0.65mm, IPC Medium Density)
footprint MUA08A_L (TSOP, 8-Leads, Body 3x3mm, Pitch 0.65mm, IPC High Density)
footprint MUA08A_M (TSOP, 8-Leads, Body 3x3mm, Pitch 0.65mm, IPC Low Density)
pins: 1 SD (in), 2 BYPASS, 3 +IN (in), 4 -IN (in), 5 VO1 (out), 6 VDD (power), 7 GND (power), 8 VO2 (out)

## LM4819MMX
designator U?
350mW Audio Power Amplifier with Shutdown Mode, 8-pin Mini SOIC; PartNumber: LM4819MMX; Manufacturer: National Semiconductor; PackageTopMarking: ZXTT*G19; PowerWise: N; CompType: Audio IC; Published: 1-Mar-2010; DatasheetVersion: Apr-2002; PackageVersion: revF, Apr-2008; PackageReference: MUA08A; Publisher: Altium Limited; PackageDescription: MINI SOIC, .118 x .118 x .034in, 8 Lead, .0256in Pitch; RoHS: N; PinCount: 8; Code_JEDEC: MO-187-AA; ComponentLink1Description: LM4819 Datasheet; ComponentLink1URL: http://www.national.com/ds/LM/LM4819.pdf; ComponentLink2Description: LM4819 Web Page; ComponentLink2URL: http://www.national.com/pf/LM/LM4819.html; ComponentLink3Description: MUA08A Package Page; ComponentLink3URL: http://www.national.com/packaging/folders/mua08a.html
footprint MUA08A_N (TSOP, 8-Leads, Body 3x3mm, Pitch 0.65mm, IPC Medium Density)
footprint MUA08A_L (TSOP, 8-Leads, Body 3x3mm, Pitch 0.65mm, IPC High Density)
footprint MUA08A_M (TSOP, 8-Leads, Body 3x3mm, Pitch 0.65mm, IPC Low Density)
pins: 1 SD (in), 2 BYPASS, 3 +IN (in), 4 -IN (in), 5 VO1 (out), 6 VDD (power), 7 GND (power), 8 VO2 (out)

## LM4819MX
designator U?
350mW Audio Power Amplifier with Shutdown Mode, 8-pin Narrow SOIC; PartNumber: LM4819MX; Manufacturer: National Semiconductor; PackageTopMarking: NSZXTT*LM48*19M; PowerWise: N; CompType: Audio IC; Published: 1-Mar-2010; DatasheetVersion: Apr-2002; PackageVersion: revM, May-2009; PackageReference: M08A; Publisher: Altium Limited; PackageDescription: SOIC Narrow, 4.9 x 3.9 x 1.45mm, 8 Lead, 1.27mm Pitch; Supplier 1: Digi-Key; Supplier Part Number 1: LM4819MXTR-ND; Supplier 2: Digi-Key; Supplier Part Number 2: LM4819MXCT-ND; RoHS: N; PinCount: 8; Code_JEDEC: MS-012-AA; Code_IPC: SOIC127P600-8; ComponentLink1Description: LM4819 Datasheet; ComponentLink1URL: http://www.national.com/ds/LM/LM4819.pdf; ComponentLink2Description: LM4819 Web Page; ComponentLink2URL: http://www.national.com/pf/LM/LM4819.html; ComponentLink3Description: M08A Package Page; ComponentLink3URL: http://www.national.com/packaging/folders/m08a.html
footprint M08A_N (SOIC, 8-Leads, Body 4.9x3.9mm, Pitch 1.27mm, IPC Medium Density)
footprint M08A_L (SOIC, 8-Leads, Body 4.9x3.9mm, Pitch 1.27mm, IPC High Density)
footprint M08A_M (SOIC, 8-Leads, Body 4.9x3.9mm, Pitch 1.27mm, IPC Low Density)
pins: 1 SD (in), 2 BYPASS, 3 +IN (in), 4 -IN (in), 5 VO1 (out), 6 VDD (power), 7 GND (power), 8 VO2 (out)

## LM4835MTX
designator U?
Stereo 2W Audio Power Amplifiers with DC Volume Control and Selectable Gain, 28-pin TSSOP; PartNumber: LM4835MTX; Manufacturer: National Semiconductor; PackageTopMarking: NSUZXYTT*LM4835MT; PowerWise: N; CompType: Audio IC; Published: 1-Mar-2010; DatasheetVersion: Feb-2003; PackageVersion: revD, Jan-2005; PackageReference: MTC28; Publisher: Altium Limited; PackageDescription: Molded TSSOP, Jedec, 9.7 x 4.4 x 0.9mm Body, 28 Lead, 0.65mm Pitch; RoHS: N; PinCount: 28; Code_JEDEC: MO-153-AE; ComponentLink1Description: LM4835 Datasheet; ComponentLink1URL: http://www.national.com/ds/LM/LM4835.pdf; ComponentLink2Description: LM4835 Web Page; ComponentLink2URL: http://www.national.com/pf/LM/LM4835.html; ComponentLink3Description: MTC28 Package Page; ComponentLink3URL: http://www.national.com/packaging/folders/mtc28.html
footprint MTC28_N (TSOP, 28-Leads, Body 9.7x4.4mm, Pitch 0.65mm, IPC Medium Density)
footprint MTC28_L (TSOP, 28-Leads, Body 9.7x4.4mm, Pitch 0.65mm, IPC High Density)
footprint MTC28_M (TSOP, 28-Leads, Body 9.7x4.4mm, Pitch 0.65mm, IPC Low Density)
pins: 1 GND (power), 2 SD (in), 3 GAIN SELECT (in), 4 MODE (in), 5 MUTE (in), 6 VDD (power), 7 DC VOL (in), 8 GND (power), 9 RIGHT DOCK (out), 10 RIGHT IN (in), 11 BEEP IN (in), 12 LEFT IN (in), 13 LEFT DOCK (out), 14 GND (power), 15 LEFT OUT + (out), 16 VDD (power), 17 LEFT OUT - (out), 18 LEFT GAIN 2 (in), 19 LEFT GAIN 1 (in), 20 GND (power), 21 HP SENSE (in), 22 BYPASS, 23 GND (power), 24 RIGHT GAIN 1 (in), 25 RIGHT GAIN 2 (in), 26 RIGHT OUT - (out), 27 VDD (power), 28 RIGHT OUT + (out)

## LM4836LQ
designator U?
Stereo 2W Audio Power Amplifiers with DC Volume Control, Bass Boost, and Input Mux, 29-pin LLP; PartNumber: LM4836LQ; Manufacturer: National Semiconductor; PowerWise: N; CompType: Audio IC; Published: 4-Dec-2008; DatasheetVersion: Jun-2002; PackageVersion: revB, Jul-2001; PackageReference: LQA28A; Publisher: Altium Limited; PackageDescription: LLP, Plastic, Quad, 5 x 5 x 0.75mm Body, 28 Lead, 0.5mm Pitch; RoHS: N; PinCount: 28; Code_JEDEC: MO-220-WHHD-1; ComponentLink1Description: LM4836 Datasheet; ComponentLink1URL: http://www.national.com/ds/LM/LM4836.pdf; ComponentLink2Description: LM4836 Web Page; ComponentLink2URL: http://www.national.com/pf/LM/LM4836.html; ComponentLink3Description: LQA28A Package Page; ComponentLink3URL: http://www.national.com/packaging/folders/lqa28a.html
footprint LQA28A (PQFN, 28-Leads, Body 5x5mm, Pitch 0.5mm, NSC Recommended)
pins: 1 VDD (power), 2 DC VOL (in), 3 GND (power), 4 LEFT IN 2 (in), 5 RIGHT IN 2 (in), 6 RIGHT DOCK (out), 7 RIGHT IN 1 (in), 8 BEEP IN (in), 9 LEFT IN 1 (in), 10 LEFT DOCK (out), 11 GND (power), 12 LEFT OUT + (out), 13 VDD (power), 14 LEFT OUT - (out), 15 LEFT BASS BOOST (in), 16 ~{BASS BOOST SELECT} (in), 17 GND (power), 18 HP SENSE (in), 19 BYPASS, 20 GND (power), 21 SD (in), 22 RIGHT BASS BOOST (in), 23 RIGHT OUT - (out), 24 VDD (power), 25 RIGHT OUT + (out), 26 GND (power), 27 MUX CONTROL (in), 28 MUTE (in), 29 DAP (power)

## LM4836LQ/NOPB
designator U?
Stereo 2W Audio Power Amplifiers with DC Volume Control, Bass Boost, and Input Mux, 28-pin LLP, Pb-Free; PartNumber: LM4836LQ/NOPB; Manufacturer: National Semiconductor; PowerWise: N; CompType: Audio IC; Published: 1-Mar-2010; DatasheetVersion: Jun-2002; PackageVersion: revB, Jul-2001; PackageReference: LQA28A; Publisher: Altium Limited; PackageDescription: LLP, Plastic, Quad, 5 x 5 x 0.75mm Body, 28 Lead, 0.5mm Pitch; Supplier 1: Digi-Key; Supplier Part Number 1: LM4836LQTR-ND; Supplier 2: Digi-Key; Supplier Part Number 2: LM4836LQCT-ND; Supplier 3: Digi-Key; Supplier Part Number 3: LM4836LQDKR-ND; RoHS: Y; PinCount: 28; Code_JEDEC: MO-220-WHHD-1; ComponentLink1Description: LM4836 Datasheet; ComponentLink1URL: http://www.national.com/ds/LM/LM4836.pdf; ComponentLink2Description: LM4836 Web Page; ComponentLink2URL: http://www.national.com/pf/LM/LM4836.html; ComponentLink3Description: LQA28A Package Page; ComponentLink3URL: http://www.national.com/packaging/folders/lqa28a.html
footprint LQA28A (PQFN, 28-Leads, Body 5x5mm, Pitch 0.5mm, NSC Recommended)
pins: 1 VDD (power), 2 DC VOL (in), 3 GND (power), 4 LEFT IN 2 (in), 5 RIGHT IN 2 (in), 6 RIGHT DOCK (out), 7 RIGHT IN 1 (in), 8 BEEP IN (in), 9 LEFT IN 1 (in), 10 LEFT DOCK (out), 11 GND (power), 12 LEFT OUT + (out), 13 VDD (power), 14 LEFT OUT - (out), 15 LEFT BASS BOOST (in), 16 ~{BASS BOOST SELECT} (in), 17 GND (power), 18 HP SENSE (in), 19 BYPASS, 20 GND (power), 21 SD (in), 22 RIGHT BASS BOOST (in), 23 RIGHT OUT - (out), 24 VDD (power), 25 RIGHT OUT + (out), 26 GND (power), 27 MUX CONTROL (in), 28 MUTE (in), 29 DAP (power)

## LM4836MTEX
designator U?
Stereo 2W Audio Power Amplifiers with DC Volume Control, Bass Boost, and Input Mux, 28-pin TSSOP-EP; PartNumber: LM4836MTEX; Manufacturer: National Semiconductor; PackageTopMarking: NSUZXYTT*LM4836MTE; PowerWise: N; CompType: Audio IC; Published: 1-Mar-2010; DatasheetVersion: Jun-2002; PackageVersion: revD, Oct-2003; PackageReference: MXA28A; Publisher: Altium Limited; PackageDescription: Molded TSSOP, Jedec, 9.7 x 4.4 x 0.9mm Body, 28 Lead, 0.65mm Pitch, Exposed Pad; RoHS: N; PinCount: 28; Code_JEDEC: MO-153-AET; ComponentLink1Description: LM4836 Datasheet; ComponentLink1URL: http://www.national.com/ds/LM/LM4836.pdf; ComponentLink2Description: LM4836 Web Page; ComponentLink2URL: http://www.national.com/pf/LM/LM4836.html; ComponentLink3Description: MXA28A Package Page; ComponentLink3URL: http://www.national.com/packaging/folders/mxa28a.html
footprint MXA28A_N (TSOP, 28-Leads, Body 9.7x4.4mm, Pitch 0.65mm, Exposed Pad, IPC Medium Density)
footprint MXA28A_L (TSOP, 28-Leads, Body 9.7x4.4mm, Pitch 0.65mm, Exposed Pad, IPC High Density)
footprint MXA28A_M (TSOP, 28-Leads, Body 9.7x4.4mm, Pitch 0.65mm, Exposed Pad, IPC Low Density)
pins: 1 GND (power), 2 MUX CONTROL (in), 3 MUTE (in), 4 VDD (power), 5 DC VOL (in), 6 GND (power), 7 LEFT IN 2 (in), 8 RIGHT IN 2 (in), 9 RIGHT DOCK (out), 10 RIGHT IN 1 (in), 11 BEEP IN (in), 12 LEFT IN 1 (in), 13 LEFT DOCK (out), 14 GND (power), 15 LEFT OUT + (out), 16 VDD (power), 17 LEFT OUT - (out), 18 LEFT BASS BOOST (in), 19 ~{BASS BOOST SELECT} (in), 20 GND (power), 21 HP SENSE (in), 22 BYPASS, 23 GND (power), 24 SD (in), 25 RIGHT BASS BOOST (in), 26 RIGHT OUT - (out), 27 VDD (power), 28 RIGHT OUT + (out), 29 DAP (power)

## LM4836MTEX/NOPB
designator U?
Stereo 2W Audio Power Amplifiers with DC Volume Control, Bass Boost, and Input Mux, 28-pin TSSOP-EP, Pb-Free; PartNumber: LM4836MTEX/NOPB; Manufacturer: National Semiconductor; PackageTopMarking: NSUZXYTT*LM4836MTE; PowerWise: N; CompType: Audio IC; Published: 1-Mar-2010; DatasheetVersion: Jun-2002; PackageVersion: revD, Oct-2003; PackageReference: MXA28A; Publisher: Altium Limited; PackageDescription: Molded TSSOP, Jedec, 9.7 x 4.4 x 0.9mm Body, 28 Lead, 0.65mm Pitch, Exposed Pad; Supplier 1: Digi-Key; Supplier Part Number 1: LM4836MTEX-ND; RoHS: Y; PinCount: 28; Code_JEDEC: MO-153-AET; ComponentLink1Description: LM4836 Datasheet; ComponentLink1URL: http://www.national.com/ds/LM/LM4836.pdf; ComponentLink2Description: LM4836 Web Page; ComponentLink2URL: http://www.national.com/pf/LM/LM4836.html; ComponentLink3Description: MXA28A Package Page; ComponentLink3URL: http://www.national.com/packaging/folders/mxa28a.html
footprint MXA28A_N (TSOP, 28-Leads, Body 9.7x4.4mm, Pitch 0.65mm, Exposed Pad, IPC Medium Density)
footprint MXA28A_L (TSOP, 28-Leads, Body 9.7x4.4mm, Pitch 0.65mm, Exposed Pad, IPC High Density)
footprint MXA28A_M (TSOP, 28-Leads, Body 9.7x4.4mm, Pitch 0.65mm, Exposed Pad, IPC Low Density)
pins: 1 GND (power), 2 MUX CONTROL (in), 3 MUTE (in), 4 VDD (power), 5 DC VOL (in), 6 GND (power), 7 LEFT IN 2 (in), 8 RIGHT IN 2 (in), 9 RIGHT DOCK (out), 10 RIGHT IN 1 (in), 11 BEEP IN (in), 12 LEFT IN 1 (in), 13 LEFT DOCK (out), 14 GND (power), 15 LEFT OUT + (out), 16 VDD (power), 17 LEFT OUT - (out), 18 LEFT BASS BOOST (in), 19 ~{BASS BOOST SELECT} (in), 20 GND (power), 21 HP SENSE (in), 22 BYPASS, 23 GND (power), 24 SD (in), 25 RIGHT BASS BOOST (in), 26 RIGHT OUT - (out), 27 VDD (power), 28 RIGHT OUT + (out), 29 DAP (power)

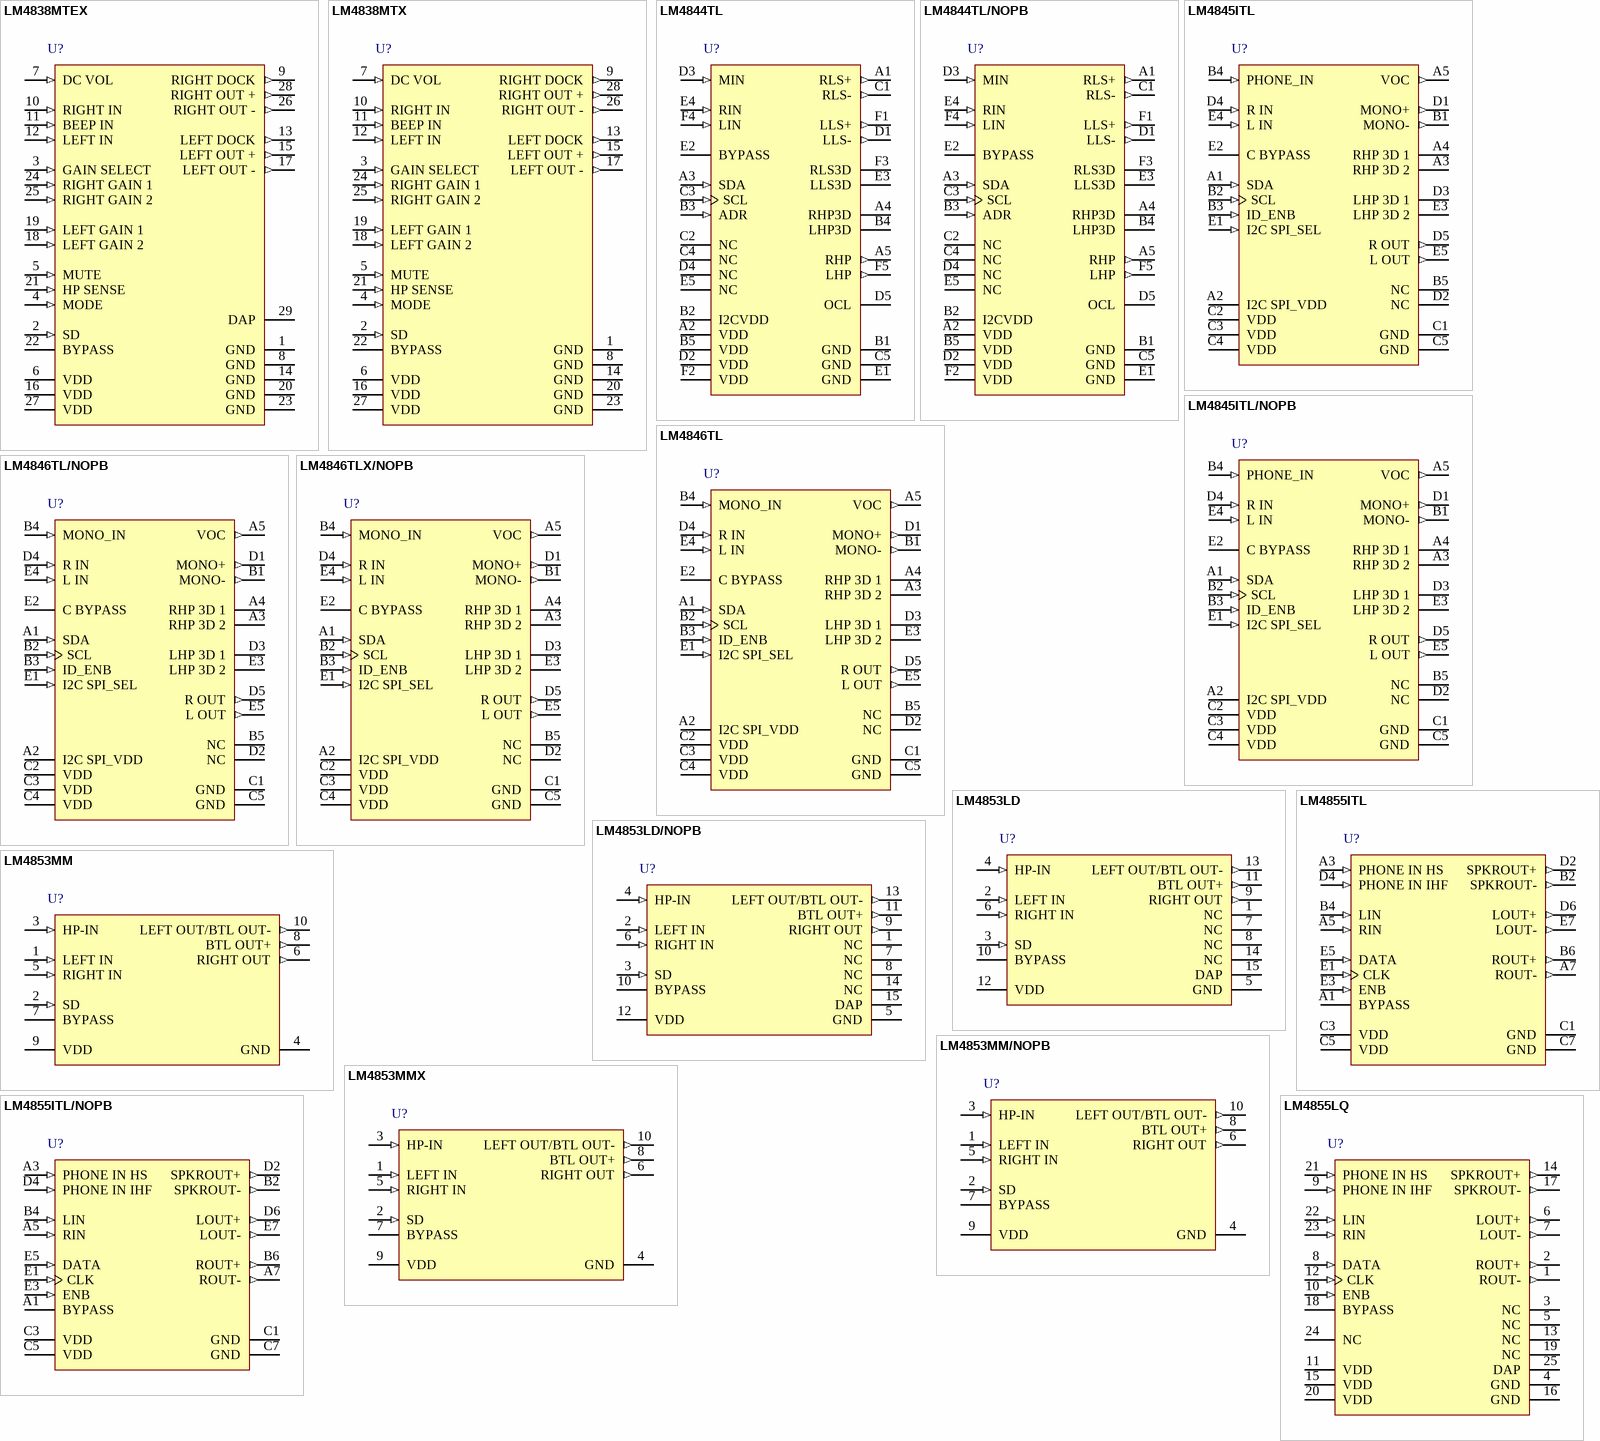
[diagram p7: symbols LM4838MTEX to LM4855LQ]

## LM4838MTEX
designator U?
Stereo 2W Audio Power Amplifiers with DC Volume Control and Selectable Gain, 28-pin TSSOP-EP; PartNumber: LM4838MTEX; Manufacturer: National Semiconductor; PackageTopMarking: NSUZXYTT*LM4838MTE; PowerWise: N; CompType: Audio IC; Published: 1-Mar-2010; DatasheetVersion: Nov-2004; PackageVersion: revD, Oct-2003; PackageReference: MXA28A; Publisher: Altium Limited; PackageDescription: Molded TSSOP, Jedec, 9.7 x 4.4 x 0.9mm Body, 28 Lead, 0.65mm Pitch, Exposed Pad; RoHS: N; PinCount: 28; Code_JEDEC: MO-153-AET; ComponentLink1Description: LM4838 Datasheet; ComponentLink1URL: http://www.national.com/ds/LM/LM4838.pdf; ComponentLink2Description: LM4838 Web Page; ComponentLink2URL: http://www.national.com/pf/LM/LM4838.html; ComponentLink3Description: MXA28A Package Page; ComponentLink3URL: http://www.national.com/packaging/folders/mxa28a.html
footprint MXA28A_N (TSOP, 28-Leads, Body 9.7x4.4mm, Pitch 0.65mm, Exposed Pad, IPC Medium Density)
footprint MXA28A_L (TSOP, 28-Leads, Body 9.7x4.4mm, Pitch 0.65mm, Exposed Pad, IPC High Density)
footprint MXA28A_M (TSOP, 28-Leads, Body 9.7x4.4mm, Pitch 0.65mm, Exposed Pad, IPC Low Density)
pins: 1 GND (power), 2 SD (in), 3 GAIN SELECT (in), 4 MODE (in), 5 MUTE (in), 6 VDD (power), 7 DC VOL (in), 8 GND (power), 9 RIGHT DOCK (out), 10 RIGHT IN (in), 11 BEEP IN (in), 12 LEFT IN (in), 13 LEFT DOCK (out), 14 GND (power), 15 LEFT OUT + (out), 16 VDD (power), 17 LEFT OUT - (out), 18 LEFT GAIN 2 (in), 19 LEFT GAIN 1 (in), 20 GND (power), 21 HP SENSE (in), 22 BYPASS, 23 GND (power), 24 RIGHT GAIN 1 (in), 25 RIGHT GAIN 2 (in), 26 RIGHT OUT - (out), 27 VDD (power), 28 RIGHT OUT + (out), 29 DAP (power)

## LM4838MTX
designator U?
Stereo 2W Audio Power Amplifiers with DC Volume Control and Selectable Gain, 28-pin TSSOP; PartNumber: LM4838MTX; Manufacturer: National Semiconductor; PackageTopMarking: NSUZXYTT*LM4838MT; PowerWise: N; CompType: Audio IC; Published: 1-Mar-2010; DatasheetVersion: Nov-2004; PackageVersion: revD, Jan-2005; PackageReference: MTC28; Publisher: Altium Limited; PackageDescription: Molded TSSOP, Jedec, 9.7 x 4.4 x 0.9mm Body, 28 Lead, 0.65mm Pitch; RoHS: N; PinCount: 28; Code_JEDEC: MO-153-AE; ComponentLink1Description: LM4838 Datasheet; ComponentLink1URL: http://www.national.com/ds/LM/LM4838.pdf; ComponentLink2Description: LM4838 Web Page; ComponentLink2URL: http://www.national.com/pf/LM/LM4838.html; ComponentLink3Description: MTC28 Package Page; ComponentLink3URL: http://www.national.com/packaging/folders/mtc28.html
footprint MTC28_N (TSOP, 28-Leads, Body 9.7x4.4mm, Pitch 0.65mm, IPC Medium Density)
footprint MTC28_L (TSOP, 28-Leads, Body 9.7x4.4mm, Pitch 0.65mm, IPC High Density)
footprint MTC28_M (TSOP, 28-Leads, Body 9.7x4.4mm, Pitch 0.65mm, IPC Low Density)
pins: 1 GND (power), 2 SD (in), 3 GAIN SELECT (in), 4 MODE (in), 5 MUTE (in), 6 VDD (power), 7 DC VOL (in), 8 GND (power), 9 RIGHT DOCK (out), 10 RIGHT IN (in), 11 BEEP IN (in), 12 LEFT IN (in), 13 LEFT DOCK (out), 14 GND (power), 15 LEFT OUT + (out), 16 VDD (power), 17 LEFT OUT - (out), 18 LEFT GAIN 2 (in), 19 LEFT GAIN 1 (in), 20 GND (power), 21 HP SENSE (in), 22 BYPASS, 23 GND (power), 24 RIGHT GAIN 1 (in), 25 RIGHT GAIN 2 (in), 26 RIGHT OUT - (out), 27 VDD (power), 28 RIGHT OUT + (out)

## LM4844TL
designator U?
Stereo 1.2W Audio Sub-System with 3D Enhancement, 30-pin Micro SMD; PartNumber: LM4844TL; Manufacturer: National Semiconductor; PackageTopMarking: XYTT*I GF3; PowerWise: N; CompType: Audio IC; Published: 4-Dec-2008; DatasheetVersion: Aug-2007; PackageVersion: revC, Dec-2003; PackageReference: TLA30CZA; Publisher: Altium Limited; PackageDescription: Thin Micro SMD, 30 Bump (Large), 0.5mm Pitch; RoHS: Y; PinCount: 30; Code_JEDEC: MO-211-DJ; ComponentLink1Description: LM4844 Datasheet; ComponentLink1URL: http://www.national.com/ds/LM/LM4844.pdf; ComponentLink2Description: LM4844 Web Page; ComponentLink2URL: http://www.national.com/pf/LM/LM4844.html; ComponentLink3Description: TLA30CZA Package Page; ComponentLink3URL: http://www.national.com/packaging/folders/tla30cza.html
footprint TLA30CZA (Micro SMD, 30-Leads, Body 2.95x2.55mm, Pitch 0.5mm, NSC Recommended)
pins: A1 RLS+ (out), A2 VDD (power), A3 SDA (in), A4 RHP3D, A5 RHP (out), B1 GND (power), B2 I2CVDD (power), B3 ADR (in), B4 LHP3D, B5 VDD (power), C1 RLS- (out), C2 NC, C3 SCL (in), C4 NC, C5 GND (power), D1 LLS- (out), D2 VDD (power), D3 MIN (in), D4 NC, D5 OCL (power), E1 GND (power), E2 BYPASS, E3 LLS3D, E4 RIN (in), E5 NC, F1 LLS+ (out), F2 VDD (power), F3 RLS3D, F4 LIN (in), F5 LHP (out)

## LM4844TL/NOPB
designator U?
Stereo 1.2W Audio Sub-System with 3D Enhancement, 30-pin Micro SMD, Pb-Free; PartNumber: LM4844TL/NOPB; Manufacturer: National Semiconductor; PackageTopMarking: XYTT*I GF3; PowerWise: N; CompType: Audio IC; Published: 1-Mar-2010; DatasheetVersion: Aug-2007; PackageVersion: revC, Dec-2003; PackageReference: TLA30CZA; Publisher: Altium Limited; PackageDescription: Thin Micro SMD, 30 Bump (Large), 0.5mm Pitch; Supplier 1: Digi-Key; Supplier Part Number 1: LM4844TLTR-ND; Supplier 2: Digi-Key; Supplier Part Number 2: LM4844TLCT-ND; Supplier 3: Digi-Key; Supplier Part Number 3: LM4844TLDKR-ND; RoHS: Y; PinCount: 30; Code_JEDEC: MO-211-DJ; ComponentLink1Description: LM4844 Datasheet; ComponentLink1URL: http://www.national.com/ds/LM/LM4844.pdf; ComponentLink2Description: LM4844 Web Page; ComponentLink2URL: http://www.national.com/pf/LM/LM4844.html; ComponentLink3Description: TLA30CZA Package Page; ComponentLink3URL: http://www.national.com/packaging/folders/tla30cza.html
footprint TLA30CZA (Micro SMD, 30-Leads, Body 2.95x2.55mm, Pitch 0.5mm, NSC Recommended)
pins: A1 RLS+ (out), A2 VDD (power), A3 SDA (in), A4 RHP3D, A5 RHP (out), B1 GND (power), B2 I2CVDD (power), B3 ADR (in), B4 LHP3D, B5 VDD (power), C1 RLS- (out), C2 NC, C3 SCL (in), C4 NC, C5 GND (power), D1 LLS- (out), D2 VDD (power), D3 MIN (in), D4 NC, D5 OCL (power), E1 GND (power), E2 BYPASS, E3 LLS3D, E4 RIN (in), E5 NC, F1 LLS+ (out), F2 VDD (power), F3 RLS3D, F4 LIN (in), F5 LHP (out)

## LM4845ITL
designator U?
Output Capacitor-less Audio Subsystem with Programmable National 3D, 25-pin Micro SMD; PartNumber: LM4845ITL; Manufacturer: National Semiconductor; PackageTopMarking: XYTT*I GE5; PowerWise: N; CompType: Audio IC; Published: 4-Dec-2008; DatasheetVersion: Jul-2006; PackageVersion: revD, Dec-2003; PackageReference: TLA25CBA; Publisher: Altium Limited; PackageDescription: Thin Micro SMD, 25 Bump (Large), 0.5mm Pitch; Supplier 1: Farnell; Supplier Part Number 1: 1008019; RoHS: Y; PinCount: 25; Code_JEDEC: MO-211-DH; ComponentLink1Description: LM4845 Datasheet; ComponentLink1URL: http://www.national.com/ds/LM/LM4845.pdf; ComponentLink2Description: LM4845 Web Page; ComponentLink2URL: http://www.national.com/pf/LM/LM4845.html; ComponentLink3Description: TLA25CBA Package Page; ComponentLink3URL: http://www.national.com/packaging/folders/tla25cba.html
footprint TLA25CBA (Micro SMD, 25-Leads, Body 2.52x2.55mm, Pitch 0.5mm, NSC Recommended)
pins: A1 SDA (in), A2 I2C SPI_VDD (power), A3 RHP 3D 2, A4 RHP 3D 1, A5 VOC (out), B1 MONO- (out), B2 SCL (in), B3 ID_ENB (in), B4 PHONE_IN (in), B5 NC, C1 GND (power), C2 VDD (power), C3 VDD (power), C4 VDD (power), C5 GND (power), D1 MONO+ (out), D2 NC, D3 LHP 3D 1, D4 R IN (in), D5 R OUT (out), E1 I2C SPI_SEL (in), E2 C BYPASS, E3 LHP 3D 2, E4 L IN (in), E5 L OUT (out)

## LM4845ITL/NOPB
designator U?
Output Capacitor-less Audio Subsystem with Programmable National 3D, 25-pin Micro SMD, Pb-Free; PartNumber: LM4845ITL/NOPB; Manufacturer: National Semiconductor; PackageTopMarking: XYTT*I GE5; PowerWise: N; CompType: Audio IC; Published: 1-Mar-2010; DatasheetVersion: Jul-2006; PackageVersion: revD, Dec-2003; PackageReference: TLA25CBA; Publisher: Altium Limited; PackageDescription: Thin Micro SMD, 25 Bump (Large), 0.5mm Pitch; Supplier 1: Digi-Key; Supplier Part Number 1: LM4845ITLTR-ND; Supplier 2: Digi-Key; Supplier Part Number 2: LM4845ITLCT-ND; Supplier 3: Digi-Key; Supplier Part Number 3: LM4845ITLDKR-ND; RoHS: Y; PinCount: 25; Code_JEDEC: MO-211-DH; ComponentLink1Description: LM4845 Datasheet; ComponentLink1URL: http://www.national.com/ds/LM/LM4845.pdf; ComponentLink2Description: LM4845 Web Page; ComponentLink2URL: http://www.national.com/pf/LM/LM4845.html; ComponentLink3Description: TLA25CBA Package Page; ComponentLink3URL: http://www.national.com/packaging/folders/tla25cba.html
footprint TLA25CBA (Micro SMD, 25-Leads, Body 2.52x2.55mm, Pitch 0.5mm, NSC Recommended)
pins: A1 SDA (in), A2 I2C SPI_VDD (power), A3 RHP 3D 2, A4 RHP 3D 1, A5 VOC (out), B1 MONO- (out), B2 SCL (in), B3 ID_ENB (in), B4 PHONE_IN (in), B5 NC, C1 GND (power), C2 VDD (power), C3 VDD (power), C4 VDD (power), C5 GND (power), D1 MONO+ (out), D2 NC, D3 LHP 3D 1, D4 R IN (in), D5 R OUT (out), E1 I2C SPI_SEL (in), E2 C BYPASS, E3 LHP 3D 2, E4 L IN (in), E5 L OUT (out)